# Altium schematic symbol library RE_REN4.SchLib: 1 symbol
Pins are listed as number, name and electrical type; pins without a type are passive.

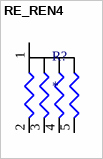
[diagram p0: symbol RE_REN4]

## RE_REN4
designator R?
Resistor network
pins: 1, 2, 3, 4, 5